# Altium schematic symbol library USR-BLE100 V1.1.SCHLIB: 1 symbol
Pins are listed as number, name and electrical type; pins without a type are passive.

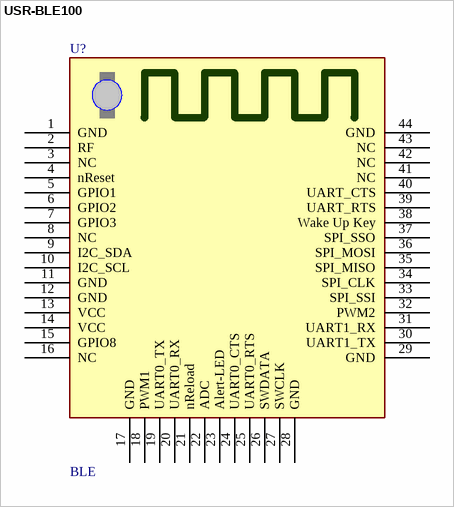
[diagram p0: symbol USR-BLE100]

## USR-BLE100
designator U?, comment BLE
footprint USR-WiFi232-C322
footprint C32X_MODULE
pins: 1 GND, 2 RF, 3 NC, 4 nReset, 5 GPIO1, 6 GPIO2, 7 GPIO3, 8 NC, 9 I2C_SDA, 10 I2C_SCL, 11 GND, 12 GND, 13 VCC, 14 VCC, 15 GPIO8, 16 NC, 17 GND, 18 PWM1, 19 UART0_TX, 20 UART0_RX, 21 nReload, 22 ADC, 23 Alert-LED, 24 UART0_CTS, 25 UART0_RTS, 26 SWDATA, 27 SWCLK, 28 GND, 29 GND, 30 UART1_TX, 31 UART1_RX, 32 PWM2, 33 SPI_SSI, 34 SPI_CLK, 35 SPI_MISO, 36 SPI_MOSI, 37 SPI_SSO, 38 Wake Up Key, 39 UART_RTS, 40 UART_CTS, 41 NC, 42 NC, 43 NC, 44 GND